# EAGLE library part M04X2 (library SparkFun-Connectors)
.1" header, two rows of four.
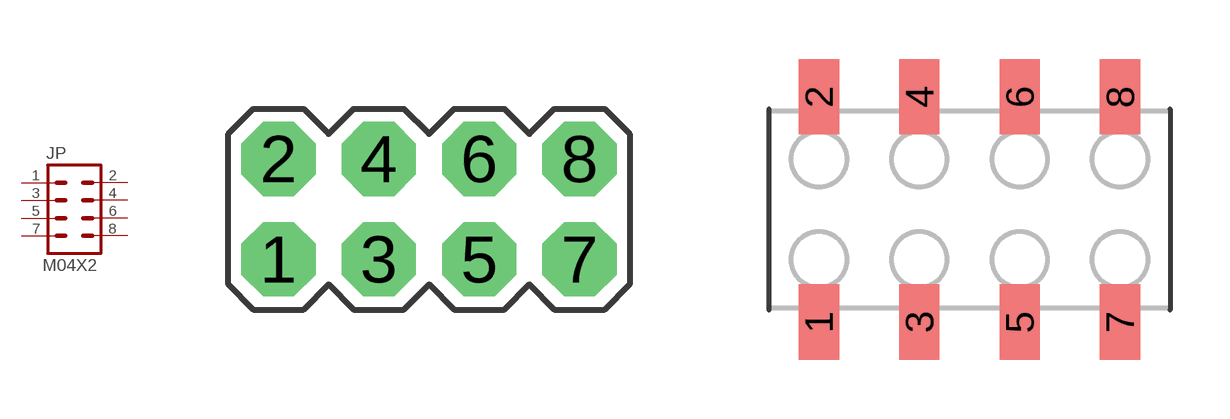
[diagram p17: symbol with the pads of 2X4; footprints 2X4, 2X4_SMD]

Designator prefix JP

## M04X2DIP  [2X4]
1  1  pas
2  2  pas
3  3  pas
4  4  pas
5  5  pas
6  6  pas
7  7  pas
8  8  pas

## M04X2SMD  [2X4_SMD]
Pads as for 2X4

## Footprint 2X4 (pad centres in mm)
drill 1.016 pad 1.88 octagon: 1 -3.81,-1.27; 2 -3.81,1.27; 3 -1.27,-1.27; 4 -1.27,1.27; 5 1.27,-1.27; 6 1.27,1.27; 7 3.81,-1.27; 8 3.81,1.27

## Footprint 2X4_SMD (pad centres in mm)
smd 1.02 x 1.9: 1 -2.54,-2.85; 2 -2.54,2.85; 3 0,-2.85; 4 0,2.85; 5 2.54,-2.85; 6 2.54,2.85; 7 5.08,-2.85; 8 5.08,2.85